# EAGLE library part NRF905 (library nordic-semi)
RF TRANSCEIVER
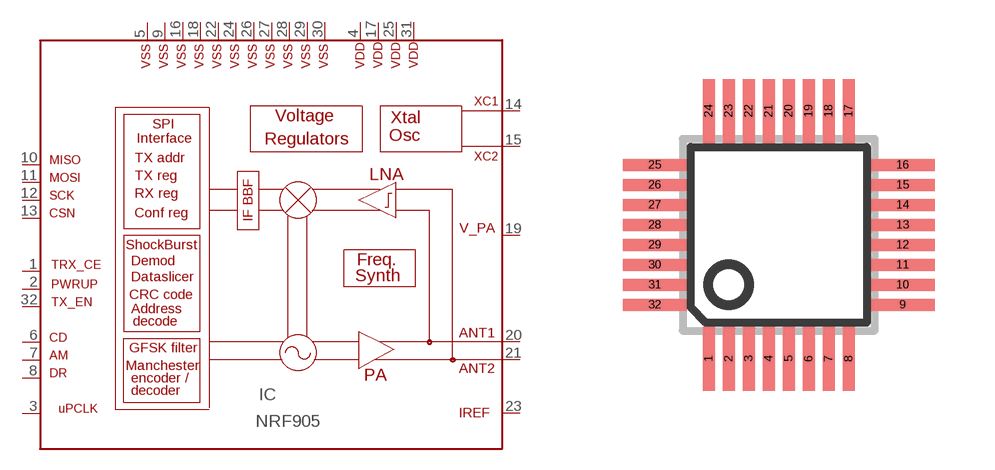
[diagram p0: symbol with the pads of LQFP-32; footprint LQFP-32]

Designator prefix IC

## NRF905  [LQFP-32]
1  TRX_CE  pas
2  PWR_UP  pas
3  UPCLK  pas
4  VDD4  pwr
5  VSS5  pas
6  CD  pas
7  AM  pas
8  DR  pas
9  VSS9  pas
10  MISO  pas
11  MOSI  pas
12  SCK  pas
13  CSN  pas
14  XC1  pas
15  XC2  pas
16  VSS16  pas
17  VDD17  pwr
18  VSS18  pas
19  VDD_PA  pwr
20  ANT1  pas
21  ANT2  pas
22  VSS22  pas
23  IREF  pas
24  VSS24  pas
25  VDD25  pwr
26  VSS26  pas
27  VSS27  pas
28  VSS28  pas
29  VSS29  pas
30  VSS30  pas
31  DVDD1V2  pas
32  TX_EN  pas

## Footprint LQFP-32 (pad centres in mm)
Quad FLat Pack
smd 0.3 x 1.6: 1 -1.75,-3.1; 2 -1.25,-3.1; 3 -0.75,-3.1; 4 -0.25,-3.1; 5 0.25,-3.1; 6 0.75,-3.1; 7 1.25,-3.1; 8 1.75,-3.1; 17 1.75,3.1; 18 1.25,3.1; 19 0.75,3.1; 20 0.25,3.1; 21 -0.25,3.1; 22 -0.75,3.1; 23 -1.25,3.1; 24 -1.75,3.1
smd 1.6 x 0.3: 9 3.1,-1.75; 10 3.1,-1.25; 11 3.1,-0.75; 12 3.1,-0.25; 13 3.1,0.25; 14 3.1,0.75; 15 3.1,1.25; 16 3.1,1.75; 25 -3.1,1.75; 26 -3.1,1.25; 27 -3.1,0.75; 28 -3.1,0.25; 29 -3.1,-0.25; 30 -3.1,-0.75; 31 -3.1,-1.25; 32 -3.1,-1.75